# Altium schematic symbol library DC_JACK.SchLib: 1 symbol
Pins are listed as number, name and electrical type; pins without a type are passive.

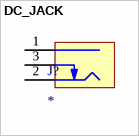
[diagram p0: symbol DC_JACK]

## DC_JACK
designator J?
pins: 1 Centre, 2 Outer, 3 SW